# Altium schematic symbol library 691 382 040 0xx.SchLib: 6 symbols
Pins are listed as number, name and electrical type; pins without a type are passive.

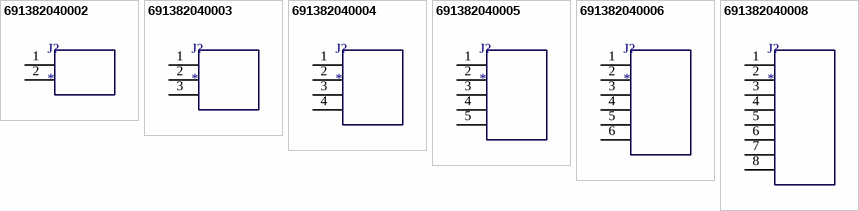
[diagram p0: symbols 691382040002 to 691382040008]

## 691382040002
designator J?
WR-TBL Terminal block - serie 382; Manufacturer: Würth Elektronik eiSos GmbH; partNo: 691382040002; ComponentLink1 Description: Manufacturer; ComponentLink2 Description: Datasheet; ComponentLink1URL: http://www.we-online.de; ComponentLink2URL: http://katalog.we-online.de/em/datasheet/6913820400xx.pdf; Created by: Karrer Zheng; Created Date: 10/9/2014
footprint 691382040002
pins: 1  , 2  

## 691382040003
designator J?
WR-TBL Terminal block - serie 382; Manufacturer: Würth Elektronik eiSos GmbH; partNo: 691382040003; ComponentLink1 Description: Manufacturer; ComponentLink2 Description: Datasheet; ComponentLink1URL: http://www.we-online.de; ComponentLink2URL: http://katalog.we-online.de/em/datasheet/6913820400xx.pdf; Created by: Karrer Zheng; Created Date: 10/9/2014
footprint 691382040003
pins: 1  , 2  , 3  

## 691382040004
designator J?
WR-TBL Terminal block - serie 382; Manufacturer: Würth Elektronik eiSos GmbH; partNo: 691382040004; ComponentLink1 Description: Manufacturer; ComponentLink2 Description: Datasheet; ComponentLink1URL: http://www.we-online.de; ComponentLink2URL: http://katalog.we-online.de/em/datasheet/6913820400xx.pdf; Created by: Karrer Zheng; Created Date: 10/9/2014
footprint 691382040004
pins: 1  , 2  , 3  , 4  

## 691382040005
designator J?
WR-TBL Terminal block - serie 382; Manufacturer: Würth Elektronik eiSos GmbH; partNo: 691382040005; ComponentLink1 Description: Manufacturer; ComponentLink2 Description: Datasheet; ComponentLink1URL: http://www.we-online.de; ComponentLink2URL: http://katalog.we-online.de/em/datasheet/6913820400xx.pdf; Created by: Karrer Zheng; Created Date: 10/9/2014
footprint 691382040005
pins: 1  , 2  , 3  , 4  , 5  

## 691382040006
designator J?
WR-TBL Terminal block - serie 382; Manufacturer: Würth Elektronik eiSos GmbH; partNo: 691382040006; ComponentLink1 Description: Manufacturer; ComponentLink2 Description: Datasheet; ComponentLink1URL: http://www.we-online.de; ComponentLink2URL: http://katalog.we-online.de/em/datasheet/6913820400xx.pdf; Created by: Karrer Zheng; Created Date: 10/9/2014
footprint 691382040006
pins: 1  , 2  , 3  , 4  , 5  , 6  

## 691382040008
designator J?
WR-TBL Terminal block - serie 382; Manufacturer: Würth Elektronik eiSos GmbH; partNo: 691382040008; ComponentLink1 Description: Manufacturer; ComponentLink2 Description: Datasheet; ComponentLink1URL: http://www.we-online.de; ComponentLink2URL: http://katalog.we-online.de/em/datasheet/6913820400xx.pdf; Created by: Karrer Zheng; Created Date: 10/9/2014
footprint 691382040008
pins: 1  , 2  , 3  , 4  , 5  , 6  , 7  , 8  